# EAGLE library part PCA9685-MODULE (library Dal_V2)
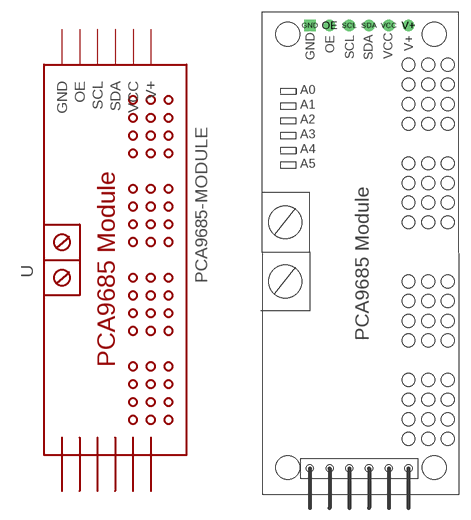
[diagram p9: symbol with the pads of PCA9685_MODULE; footprint PCA9685_MODULE]

Designator prefix -

## PCA9685-MODULE  [PCA9685_MODULE]
GND  GND
OE  OE
SCL  SCL
SDA  SDA
V+  V+
VCC  VCC

## Footprint PCA9685_MODULE (pad centres in mm)
drill 1 square: GND 0,0
drill 1: OE 2.54,0; SCL 5.08,0; SDA 7.62,0; V+ 12.7,0; VCC 10.16,0